# EAGLE library part CTS_219-4LPST (library CASE-Switches)
219-4LPST - Standard 4 position DIP-Switch - SMD Description: Standard 4 position DIP-Switch in SMD package. Links: Datasheet1 <https://datasheet.octopart.com/219-4LPST-CTS-Components-datasheet-5314881.pdf> RS-Components <https://se.rs-online.com/web/p/dip-sip-switches/1774357/?relevancy-data=636F3D3126696E3D4931384E525353746F636B4E756D626572266C753D656E266D6D3D6D61746368616C6C26706D3D5E2828282872737C5253295B205D3F293F285C647B337D5B5C2D5C735D3F5C647B332C347D5B705061415D3F29297C283235285C647B387D7C5C647B317D5C2D5C647B377D2929292426706F3D3126736E3D592673723D2673743D52535F53544F434B5F4E554D4245522677633D4E4F4E45267573743D3137372D34333537267374613D3137373433353726&searchHistory=%7B%22enabled%22%3Atrue%7D>
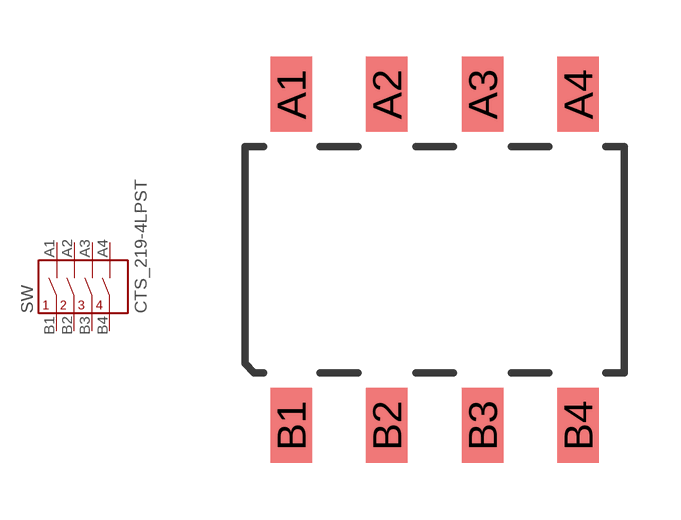
[diagram p1: symbol with the pads of DIPSWITCH_4P_SMD; footprint DIPSWITCH_4P_SMD]

Designator prefix SW

## CTS_219-4LPST  [DIPSWITCH_4P_SMD]
A1  A1
A2  A2
A3  A3
A4  A4
B1  B1
B2  B2
B3  B3
B4  B4

## Footprint DIPSWITCH_4P_SMD (pad centres in mm)
Links: Datasheet <http://www.farnell.com/datasheets/2367232.pdf?_ga=2.78644432.510093211.1546607516-411290609.1543318711>
smd 1.1 x 2: A1 -3.81,4.4; A2 -1.27,4.4; A3 1.27,4.4; A4 3.81,4.4; B1 -3.81,-4.4; B2 -1.27,-4.4; B3 1.27,-4.4; B4 3.81,-4.4